# Altium schematic symbol library Buzzer.SCHLIB: 1 symbol
Pins are listed as number, name and electrical type; pins without a type are passive.

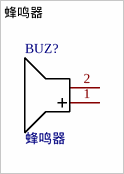
[diagram p0: symbol 蜂鸣器]

## 蜂鸣器
designator BUZ?
Add into BOM: yes; Symbol: 蜂鸣器; Device: 蜂鸣器; LCSC Part Name: 蜂鸣器; Supplier Part: C9900020875; Manufacturer Part: 蜂鸣器; Supplier Footprint: 插件; JLCPCB Part Class: 扩展库; Supplier: LCSC; Convert to PCB: yes; Name: 蜂鸣器
footprint BUZ-TH_BD9.0-P5.00-D0.6-FD
3D model BUZ-TH_D9.0-H5.5-P5.0
pins: 1 +, 2 -